# Altium footprint library Connectors.PcbLib: 28 footprints (part 1 of 2)
Each footprint in its own frame and in the unit in brackets; x right, y up, seen from the top. Pads: shape width x height; smd on the part's side, far side on the other; paste and mask are expansions set on the pad; w line width, h text height; cw(c..) or ccw(c..) is an arc to the next point about the centre after c.
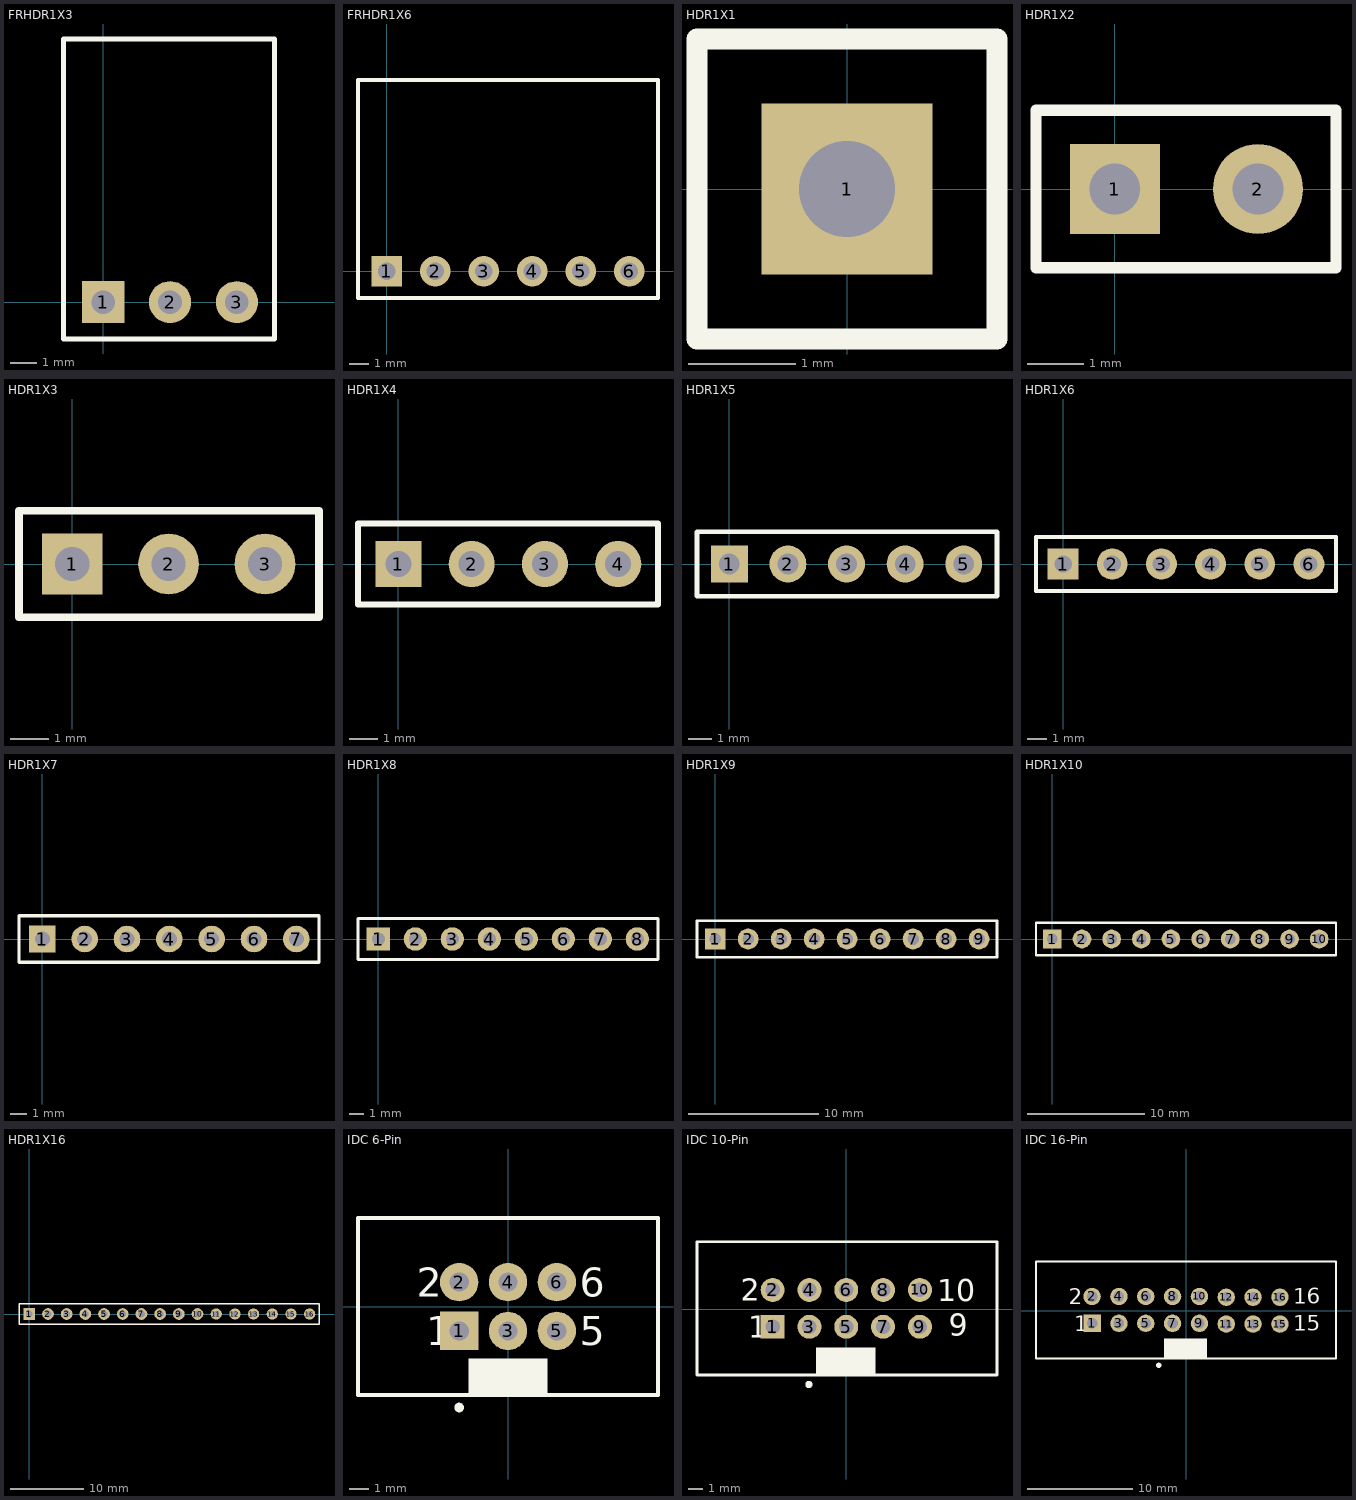
[diagram p0: the footprints below, top view; thin cyan lines are the x and y axes]

## FRHDR1X3 [mm]
pads (3):
  rect 1.6x1.6 hole 0.9: 1(0,0)
  round 1.6 hole 0.9: 2(2.54,0) 3(5.08,0)
Top Overlay:
  lines w0.2: -1.51,-1.4 6.51,-1.4 6.51,10 -1.51,10 -1.51,-1.4
3D body "Female_right_angle_header_master2.stp": height 2.51, standoff -3.19, extent -1.51,-0.26 6.51,10

## FRHDR1X6 [mm]
pads (6):
  rect 1.6x1.6 hole 0.9: 1(0,0)
  round 1.6 hole 0.9: 2(2.54,0) 3(5.08,0) 4(7.62,0) 5(10.16,0) 6(12.7,0)
Top Overlay:
  lines w0.2: -1.5,-1.4 -1.5,10 14.2,10 14.2,-1.4 -1.5,-1.4
3D body "Female_right_angle_header_master.stp": height 2.51, standoff -3.19, extent -1.5,-0.3 14.14,9.96

## HDR1X1 [mm]
pads (1):
  rect 1.6x1.6 hole 0.9: 1(0,0)
Top Overlay:
  lines w0.2: -1.4,-1.4 1.4,-1.4 1.4,1.4 -1.4,1.4 -1.4,-1.4
3D body "1.stp": height 8.01, standoff -2.49, extent -1.25,-1.25 1.25,1.25

## HDR1X2 [mm]
pads (2):
  rect 1.6x1.6 hole 0.9: 1(0,0)
  round 1.6 hole 0.9: 2(2.54,0)
Top Overlay:
  lines w0.2: -1.4,-1.4 3.925,-1.4 3.925,1.4 -1.4,1.4 -1.4,-1.4
3D body "2.stp": height 8.01, standoff -2.49, extent -1.25,-1.25 3.79,1.25

## HDR1X3 [mm]
pads (3):
  rect 1.6x1.6 hole 0.9: 1(0,0)
  round 1.6 hole 0.9: 2(2.54,0) 3(5.08,0)
Top Overlay:
  lines w0.2: -1.4,-1.4 6.5,-1.4 6.5,1.4 -1.4,1.4 -1.4,-1.4
3D body "3.stp": height 8.01, standoff -2.49, extent -1.25,-1.25 6.33,1.25

## HDR1X4 [mm]
pads (4):
  rect 1.6x1.6 hole 0.9: 1(0,0)
  round 1.6 hole 0.9: 2(2.54,0) 3(5.08,0) 4(7.62,0)
Top Overlay:
  lines w0.2: -1.4,-1.4 9,-1.4 9,1.4 -1.4,1.4 -1.4,-1.4
3D body "4.stp": height 8.01, standoff -2.49, extent -1.25,-1.25 8.87,1.25

## HDR1X5 [mm]
pads (5):
  rect 1.6x1.6 hole 0.9: 1(0,0)
  round 1.6 hole 0.9: 2(2.54,0) 3(5.08,0) 4(7.62,0) 5(10.16,0)
Top Overlay:
  lines w0.2: -1.4,-1.4 11.6,-1.4 11.6,1.4 -1.4,1.4 -1.4,-1.4
3D body "5.stp": height 8.01, standoff -2.49, extent -1.25,-1.25 11.41,1.25

## HDR1X6 [mm]
pads (6):
  rect 1.6x1.6 hole 0.9: 1(0,0)
  round 1.6 hole 0.9: 2(2.54,0) 3(5.08,0) 4(7.62,0) 5(10.16,0) 6(12.7,0)
Top Overlay:
  lines w0.2: -1.4,-1.4 -1.4,1.4 14.1,1.4 14.1,-1.4 -1.4,-1.4
3D body "6.stp": height 8.01, standoff -2.49, extent -1.25,-1.25 13.95,1.25

## HDR1X7 [mm]
pads (7):
  rect 1.6x1.6 hole 0.9: 1(0,0)
  round 1.6 hole 0.9: 2(2.54,0) 3(5.08,0) 4(7.62,0) 5(10.16,0) 6(12.7,0) 7(15.24,0)
Top Overlay:
  lines w0.2: -1.4,-1.4 -1.4,1.4 16.6,1.4 16.6,-1.4 -1.4,-1.4
3D body "7.stp": height 8.01, standoff -2.49, extent -1.25,-1.25 16.49,1.25

## HDR1X8 [mm]
pads (8):
  rect 1.6x1.6 hole 0.9: 1(0,0)
  round 1.6 hole 0.9: 2(2.54,0) 3(5.08,0) 4(7.62,0) 5(10.16,0) 6(12.7,0) 7(15.24,0) 8(17.78,0)
Top Overlay:
  lines w0.2: -1.4,-1.4 -1.4,1.4 19.2,1.4 19.2,-1.4 -1.4,-1.4
3D body "8.stp": height 8.01, standoff -2.49, extent -1.25,-1.25 19.03,1.25

## HDR1X9 [mm]
pads (9):
  rect 1.6x1.6 hole 0.9: 1(0,0)
  round 1.6 hole 0.9: 2(2.54,0) 3(5.08,0) 4(7.62,0) 5(10.16,0) 6(12.7,0) 7(15.24,0) 8(17.78,0) 9(20.32,0)
Top Overlay:
  lines w0.2: -1.4,-1.4 -1.4,1.4 21.7,1.4 21.7,-1.4 -1.4,-1.4
3D body "9.stp": height 8.01, standoff -2.49, extent -1.25,-1.25 21.57,1.25

## HDR1X10 [mm]
pads (10):
  rect 1.6x1.6 hole 0.9: 1(0,0)
  round 1.6 hole 0.9: 2(2.54,0) 3(5.08,0) 4(7.62,0) 5(10.16,0) 6(12.7,0) 7(15.24,0) 8(17.78,0) 9(20.32,0) 10(22.86,0)
Top Overlay:
  lines w0.2: -1.4,-1.4 24.3,-1.4 24.3,1.4 -1.4,1.4 -1.4,-1.4
3D body "0.stp": height 8.01, standoff -2.49, extent -1.25,-1.25 24.11,1.25

## HDR1X16 [mm]
pads (16):
  rect 1.6x1.6 hole 0.9: 1(0,0)
  round 1.6 hole 0.9: 2(2.54,0) 3(5.08,0) 4(7.62,0) 5(10.16,0) 6(12.7,0) 7(15.24,0) 8(17.78,0) 9(20.32,0) 10(22.86,0)
  round 1.524 hole 0.762: 11(25.4,0) 12(27.94,0) 13(30.48,0) 14(33.02,0) 15(35.56,0) 16(38.1,0)
Top Overlay:
  lines w0.2: -1.4,-1.4 39.37,-1.4 39.37,1.4 -1.4,1.4 -1.4,-1.4
3D body "Breakaway Header_16.stp": height 8, standoff -2.5, extent -1.25,-1.25 39.35,1.25

## IDC 6-Pin [mm] "Connector; IDC, Low Profile Male Header, Thru-Hole; 6 Position; Vertical; Pitch 2.54 mm; Body 15.24 x 9.2 x 9.45 mm (LxWxH)"
height 9.45
pads (6):
  rect 2x2 hole 1: 1(-2.54,-1.27)
  round 2 hole 1: 2(-2.54,1.27) 3(0,-1.27) 4(0,1.27) 5(2.54,-1.27) 6(2.54,1.27)
Top Overlay:
  circle w0.25: c-2.54,-5.25 r0.125
  rectangle: -2.05,-4.6 2.05,-2.7
  lines w0.2: -7.8,-4.6 7.8,-4.6 7.8,4.6 -7.8,4.6 -7.8,-4.6
  text "5" at 3.74,-2.02 h1.5
  text "6" at 3.74,0.52 h1.5
  text "1" at -4.24,-2.02 h1.5
  text "2" at -4.74,0.52 h1.5
3D body "IDC_2x3.stp": height 11.35, standoff -2.5, extent -7.64,-4.425 7.64,4.425

## IDC 10-Pin [mm] "Connector; IDC, Low Profile Male Header, Thru-Hole; 10 Position; Vertical; Pitch 2.54 mm; Body 15.24 x 9.2 x 9.45 mm (LxWxH)"
height 9.45
pads (10):
  rect 1.65x1.65 hole 1: 1(-5.08,-1.2)
  round 1.65 hole 1: 2(-5.08,1.34) 3(-2.54,-1.2) 4(-2.54,1.34) 5(0,-1.2) 6(0,1.34) 7(2.54,-1.2) 8(2.54,1.34) 9(5.08,-1.2) 10(5.08,1.34)
Top Overlay:
  circle w0.25: c-2.58,-5.18 r0.125
  rectangle: -2.09,-4.53 2.01,-2.63
  lines w0.2: -10.3,-4.53 10.4,-4.53 10.4,4.67 -10.3,4.67 -10.3,-4.53
  text "9" at 7.06,-1.83 h1.5
  text "10" at 6.26,0.57 h1.5
  text "1" at -6.78,-1.95 h1.5
  text "2" at -7.28,0.59 h1.5
3D body "IDC_2x5.stp": height 11.35, standoff -2.5, extent -10.105,-4.325 10.255,4.525

## IDC 16-Pin [mm] "Connector; IDC, Low Profile Male Header, Thru-Hole; 16 Position; Vertical; Pitch 2.54 mm; Body 15.24 x 9.2 x 9.45 mm (LxWxH)"
height 9.45
pads (16):
  rect 1.65x1.65 hole 1: 1(-8.89,-1.2)
  round 1.65 hole 1: 2(-8.89,1.34) 3(-6.35,-1.2) 4(-6.35,1.34) 5(-3.81,-1.2) 6(-3.81,1.34) 7(-1.27,-1.2) 8(-1.27,1.34) 9(1.27,-1.2) 10(1.27,1.34) 11(3.81,-1.27) 12(3.81,1.27) 13(6.35,-1.27) 14(6.35,1.27) 15(8.89,-1.27) 16(8.89,1.27)
Top Overlay:
  circle w0.25: c-2.58,-5.18 r0.125
  rectangle: -2.09,-4.53 2.01,-2.63
  lines w0.2: -14.2,-4.53 -14.2,4.67 14.2,4.67 14.2,-4.53 -14.2,-4.53
  text "2" at -11.09,0.59 h1.5
  text "1" at -10.59,-1.95 h1.5
  text "16" at 10.16,0.635 h1.5
  text "15" at 10.16,-1.905 h1.5
3D body "IDC_master.stp": height 11.35, standoff -2.5, extent -13.99,-4.405 13.99,4.445